# Altium footprint library switchcard.PcbLib: 5 footprints
Each footprint in its own frame and in the unit in brackets; x right, y up, seen from the top. Pads: shape width x height; smd on the part's side, far side on the other; paste and mask are expansions set on the pad; w line width, h text height; cw(c..) or ccw(c..) is an arc to the next point about the centre after c.
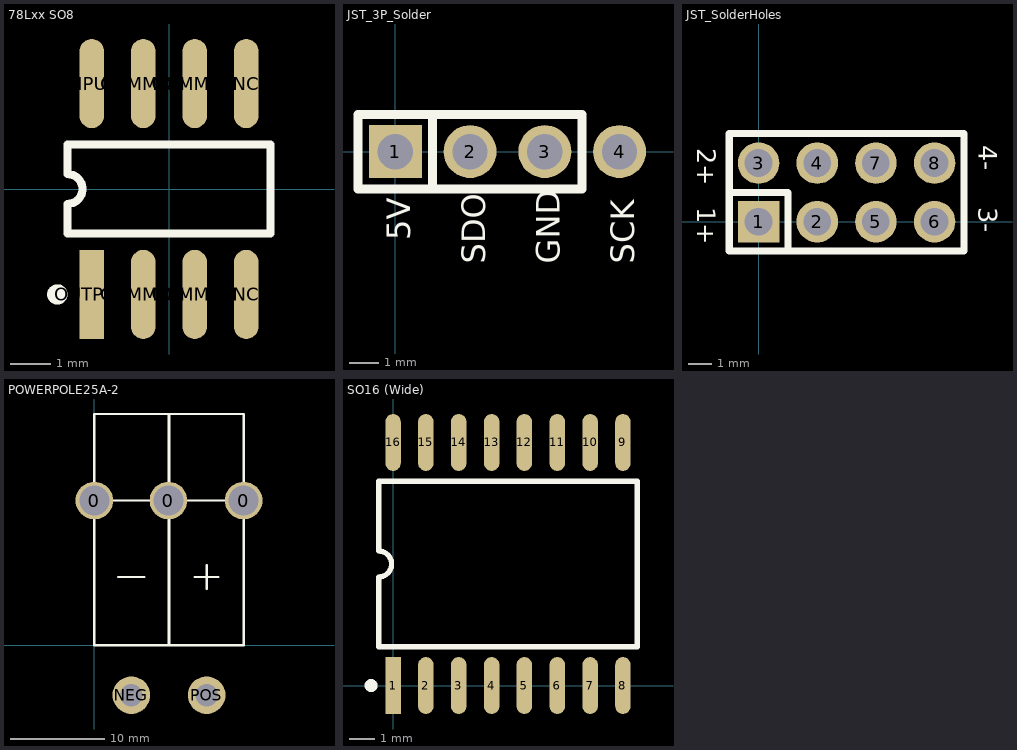
[diagram p0: the footprints below, top view; thin cyan lines are the x and y axes]

## 78Lxx SO8 [mm]
pads (8):
  oval 0.6x2.2 smd: COMMON(-0.635,-2.6) COMMON(-0.635,2.6) COMMON(0.635,-2.6) COMMON(0.635,2.6) INPUT(-1.905,2.6) NC(1.905,-2.6) NC(1.905,2.6)
  rect 0.6x2.2 smd: OUTPUT(-1.905,-2.6)
Top Overlay:
  circle w0.25: c-2.755,-2.6 r0.125
  lines w0.2: -2.5,-1.1 -2.5,-0.367 ccw(c-2.5,0) -2.5,0.367 -2.5,1.1 2.5,1.1 2.5,-1.1 -2.5,-1.1

## JST_3P_Solder [mm]
pads (4):
  rect 1.8x1.8 hole 1.2: 1(0,0)
  round 1.8 hole 1.2: 2(2.54,0) 3(5.08,0) 4(7.62,0)
Top Overlay:
  lines w0.305: 1.27,-1.27 1.27,1.27 -1.27,1.27 ; -1.27,1.27 6.35,1.27 6.35,-1.27 -1.27,-1.27 -1.27,1.27
  text "GND" at 5.588,-3.81 h0.8
  text "SCK" at 8.128,-3.81 h0.8
  text "SDO" at 3.048,-3.81 h0.8
  text "5V" at 0.508,-3.01 h0.8

## JST_SolderHoles [mm]
pads (8):
  rect 1.8x1.8 hole 1.2: 1(0,0)
  round 1.8 hole 1.2: 2(2.54,0) 3(0,2.54) 4(2.54,2.54) 5(5.08,0) 6(7.62,0) 7(5.08,2.54) 8(7.62,2.54)
Top Overlay:
  lines w0.305: -1.27,1.27 1.27,1.27 1.27,-1.27 ; -1.27,-1.27 8.89,-1.27 8.89,3.81 -1.27,3.81 -1.27,-1.27
  text "2+" at -2.667,3.175 h0.8
  text "4-" at 9.525,3.302 h0.8
  text "3-" at 9.525,0.635 h0.8
  text "1+" at -2.667,0.635 h0.8

## POWERPOLE25A-2 [mm]
height 10
pads (5):
  round 4 hole 3.2: 0(0,15.367) 0(7.874,15.367) 0(15.875,15.367)
  round 4 hole 2.4: NEG(3.937,-5.334) POS(11.938,-5.334)
Top Overlay:
  lines w0.254: -0.013,14.127 ccw(c-0.013,15.377) -0.013,16.627 ; -0.013,15.377 7.887,15.367 ; 2.54,7.239 5.334,7.239 ; 7.887,14.127 cw(c7.887,15.377) 7.887,16.627 ; 7.988,14.127 ccw(c7.988,15.377) 7.988,16.627 ; 7.988,15.377 15.888,15.367 ; 10.668,7.239 13.208,7.239 ; 11.938,5.969 11.938,8.509 ; 15.888,14.127 cw(c15.888,15.377) 15.888,16.627 ; -0.013,-0.023 -0.013,24.577 7.887,24.577 7.887,-0.023 -0.013,-0.023 ; 7.988,-0.023 15.888,-0.023 15.888,24.577 7.988,24.577 7.988,-0.023

## SO16 (Wide) [mm]
pads (16):
  rect 0.6x2.2 smd: 1(0,0)
  oval 0.6x2.2 smd: 2(1.27,0) 3(2.54,0) 4(3.81,0) 5(5.08,0) 6(6.35,0) 7(7.62,0) 8(8.89,0) 9(8.89,9.4) 10(7.62,9.4) 11(6.35,9.4) 12(5.08,9.4) 13(3.81,9.4) 14(2.54,9.4) 15(1.27,9.4) 16(0,9.4)
Top Overlay:
  circle w0.25: c-0.85,0 r0.125
  lines w0.2: -0.555,1.5 9.445,1.5 9.445,7.9 -0.555,7.9 -0.555,5.2 cw(c-0.555,4.7) -0.555,4.2 -0.555,1.5